# Altium integrated library Wuerth Elektronik Common Mode Line Filter.IntLib: 62 symbols
Pins are listed as number, name and electrical type; pins without a type are passive.

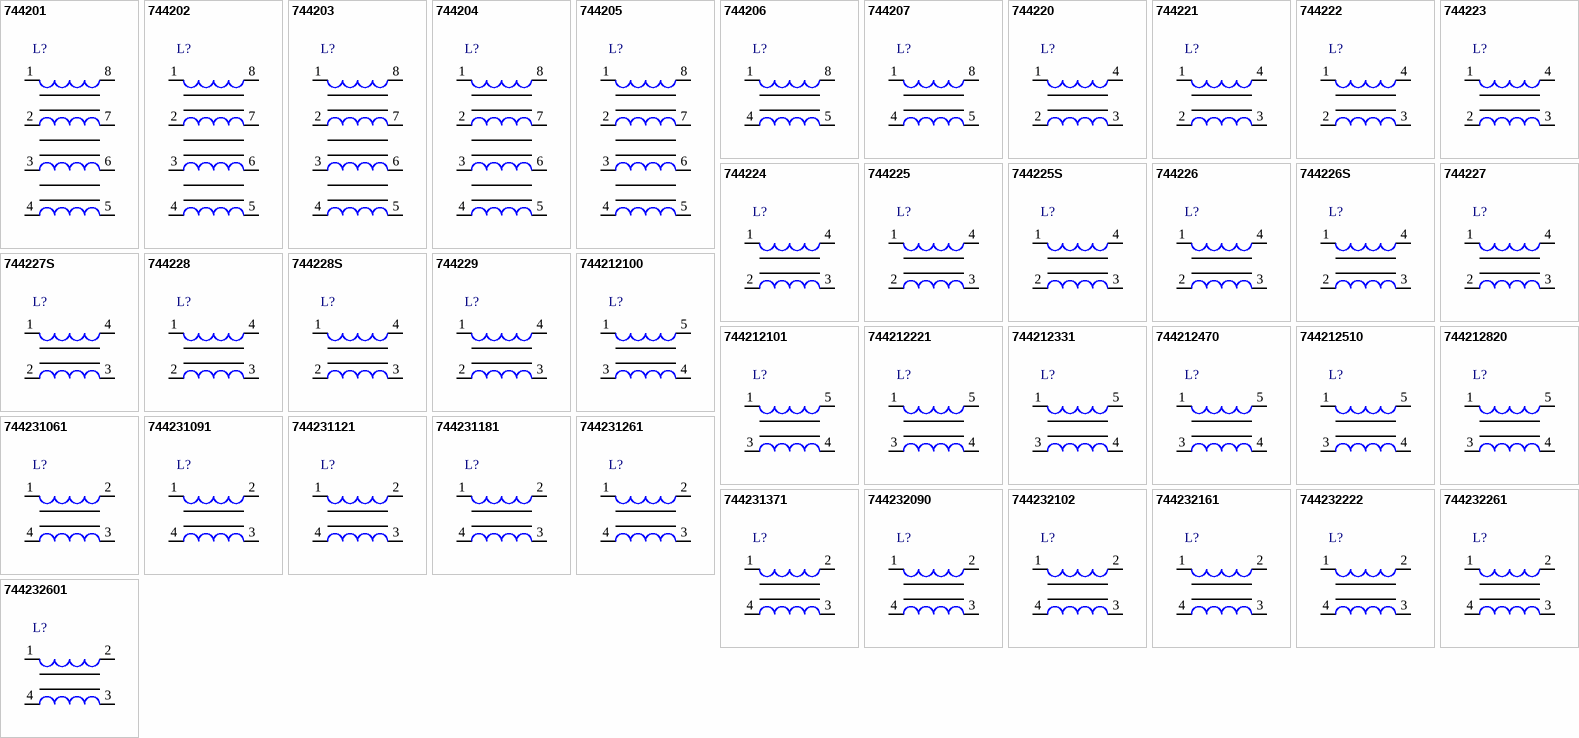
[diagram p0: symbols 744201 to 744232601]

## 744201
designator L?
SMD Common Mode Line Filter WE-SL, L = 4700 µH; Inductance: 4700 µH; DatasheetVersion: ver 6, Dec-2010; PackageVersion: 2010; PackageReference: WE-SL; PackageDescription: SMD Inductor, 8-Leads, Body 10.5 x 9.7 mm; ComponentLink1Description: Manufacturer URL; ComponentLink1URL: http://www.we-online.com; ComponentLink2Description: Datasheet; ComponentLink2URL: http://www.we-online.de/katalog/media/pdf/744201.pdf
footprint WE-SL (SMD Inductor, 8-Leads, Body 10.5x9.7x6.05 mm)
pins: 1, 2, 3, 4, 5, 6, 7, 8

## 744202
designator L?
SMD Common Mode Line Filter WE-SL, L = 1000 µH; Inductance: 1000 µH; DatasheetVersion: ver 6, Dec-2010; PackageVersion: 2010; PackageReference: WE-SL; PackageDescription: SMD Inductor, 8-Leads, Body 10.5 x 9.7 mm; ComponentLink1Description: Manufacturer URL; ComponentLink1URL: http://www.we-online.com; ComponentLink2Description: Datasheet; ComponentLink2URL: http://www.we-online.de/katalog/media/pdf/744202.pdf
footprint WE-SL (SMD Inductor, 8-Leads, Body 10.5x9.7x6.05 mm)
pins: 1, 2, 3, 4, 5, 6, 7, 8

## 744203
designator L?
SMD Common Mode Line Filter WE-SL, L = 500 µH; Inductance: 500 µH; DatasheetVersion: ver 6, Dec-2010; PackageVersion: 2010; PackageReference: WE-SL; PackageDescription: SMD Inductor, 8-Leads, Body 10.5 x 9.7 mm; ComponentLink1Description: Manufacturer URL; ComponentLink1URL: http://www.we-online.com; ComponentLink2Description: Datasheet; ComponentLink2URL: http://www.we-online.de/katalog/media/pdf/744203.pdf
footprint WE-SL (SMD Inductor, 8-Leads, Body 10.5x9.7x6.05 mm)
pins: 1, 2, 3, 4, 5, 6, 7, 8

## 744204
designator L?
SMD Common Mode Line Filter WE-SL, L = 250 µH; Inductance: 250 µH; DatasheetVersion: ver 6, Dec-2010; PackageVersion: 2010; PackageReference: WE-SL; PackageDescription: SMD Inductor, 8-Leads, Body 10.5 x 9.7 mm; ComponentLink1Description: Manufacturer URL; ComponentLink1URL: http://www.we-online.com; ComponentLink2Description: Datasheet; ComponentLink2URL: http://www.we-online.de/katalog/media/pdf/744204.pdf
footprint WE-SL (SMD Inductor, 8-Leads, Body 10.5x9.7x6.05 mm)
pins: 1, 2, 3, 4, 5, 6, 7, 8

## 744205
designator L?
SMD Common Mode Line Filter WE-SL, L = 100 µH; Inductance: 100 µH; DatasheetVersion: ver 6, Dec-2010; PackageVersion: 2010; PackageReference: WE-SL; PackageDescription: SMD Inductor, 8-Leads, Body 10.5 x 9.7 mm; ComponentLink1Description: Manufacturer URL; ComponentLink1URL: http://www.we-online.com; ComponentLink2Description: Datasheet; ComponentLink2URL: http://www.we-online.de/katalog/media/pdf/744205.pdf
footprint WE-SL (SMD Inductor, 8-Leads, Body 10.5x9.7x6.05 mm)
pins: 1, 2, 3, 4, 5, 6, 7, 8

## 744206
designator L?
SMD Common Mode Line Filter WE-SL, L = 60.0 µH; Inductance: 60.0 µH; DatasheetVersion: ver 5, Oct-2004; PackageVersion: 2010; PackageReference: WE-SL; PackageDescription: SMD Inductor, 8-Leads, Body 10.5 x 9.7 mm; ComponentLink1Description: Manufacturer URL; ComponentLink1URL: http://www.we-online.com; ComponentLink2Description: Datasheet; ComponentLink2URL: http://www.we-online.de/katalog/media/pdf/744206.pdf
footprint WE-SL (SMD Inductor, 8-Leads, Body 10.5x9.7x6.05 mm)
pins: 1, 4, 5, 8

## 744207
designator L?
SMD Common Mode Line Filter WE-SL, L = 35.0 µH; Inductance: 35.0 µH; DatasheetVersion: ver 5, Oct-2004; PackageVersion: 2010; PackageReference: WE-SL; PackageDescription: SMD Inductor, 8-Leads, Body 10.5 x 9.7 mm; ComponentLink1Description: Manufacturer URL; ComponentLink1URL: http://www.we-online.com; ComponentLink2Description: Datasheet; ComponentLink2URL: http://www.we-online.de/katalog/media/pdf/744207.pdf
footprint WE-SL (SMD Inductor, 8-Leads, Body 10.5x9.7x6.05 mm)
pins: 1, 4, 5, 8

## 744220
designator L?
SMD Common Mode Line Filter WE-SL2, L = 4700 µH; Inductance: 4700 µH; DatasheetVersion: ver 6, Mar-2010; PackageVersion: 2010; PackageReference: WE-SL2; PackageDescription: SMD Inductor, 4-Leads, Body 6.3 x 9.5 mm; ComponentLink1Description: Manufacturer URL; ComponentLink1URL: http://www.we-online.com; ComponentLink2Description: Datasheet; ComponentLink2URL: http://www.we-online.de/katalog/media/pdf/744220.pdf
footprint WE-SL2 (SMD Inductor, 4-Leads, Body 6.3x9.5x5.3 mm)
pins: 1, 2, 3, 4

## 744221
designator L?
SMD Common Mode Line Filter WE-SL2, L = 2000 µH; Inductance: 2000 µH; DatasheetVersion: ver 5, Oct-2004; PackageVersion: 2010; PackageReference: WE-SL2; PackageDescription: SMD Inductor, 4-Leads, Body 6.3 x 9.5 mm; ComponentLink1Description: Manufacturer URL; ComponentLink1URL: http://www.we-online.com; ComponentLink2Description: Datasheet; ComponentLink2URL: http://www.we-online.de/katalog/media/pdf/744221.pdf
footprint WE-SL2 (SMD Inductor, 4-Leads, Body 6.3x9.5x5.3 mm)
pins: 1, 2, 3, 4

## 744222
designator L?
SMD Common Mode Line Filter WE-SL2, L = 1000 µH; Inductance: 1000 µH; DatasheetVersion: ver 5, Oct-2004; PackageVersion: 2010; PackageReference: WE-SL2; PackageDescription: SMD Inductor, 4-Leads, Body 6.3 x 9.5 mm; ComponentLink1Description: Manufacturer URL; ComponentLink1URL: http://www.we-online.com; ComponentLink2Description: Datasheet; ComponentLink2URL: http://www.we-online.de/katalog/media/pdf/744222.pdf
footprint WE-SL2 (SMD Inductor, 4-Leads, Body 6.3x9.5x5.3 mm)
pins: 1, 2, 3, 4

## 744223
designator L?
SMD Common Mode Line Filter WE-SL2, L = 500 µH; Inductance: 500 µH; DatasheetVersion: ver 5, Oct-2004; PackageVersion: 2010; PackageReference: WE-SL2; PackageDescription: SMD Inductor, 4-Leads, Body 6.3 x 9.5 mm; ComponentLink1Description: Manufacturer URL; ComponentLink1URL: http://www.we-online.com; ComponentLink2Description: Datasheet; ComponentLink2URL: http://www.we-online.de/katalog/media/pdf/744223.pdf
footprint WE-SL2 (SMD Inductor, 4-Leads, Body 6.3x9.5x5.3 mm)
pins: 1, 2, 3, 4

## 744224
designator L?
SMD Common Mode Line Filter WE-SL2, L = 250 µH; Inductance: 250 µH; DatasheetVersion: ver 5, Oct-2004; PackageVersion: 2010; PackageReference: WE-SL2; PackageDescription: SMD Inductor, 4-Leads, Body 6.3 x 9.5 mm; ComponentLink1Description: Manufacturer URL; ComponentLink1URL: http://www.we-online.com; ComponentLink2Description: Datasheet; ComponentLink2URL: http://www.we-online.de/katalog/media/pdf/744224.pdf
footprint WE-SL2 (SMD Inductor, 4-Leads, Body 6.3x9.5x5.3 mm)
pins: 1, 2, 3, 4

## 744225
designator L?
SMD Common Mode Line Filter WE-SL2, L = 40.0 µH; Inductance: 40.0 µH; DatasheetVersion: ver 7, Oct-2004; PackageVersion: 2010; PackageReference: WE-SL2; PackageDescription: SMD Inductor, 4-Leads, Body 6.3 x 9.5 mm; ComponentLink1Description: Manufacturer URL; ComponentLink1URL: http://www.we-online.com; ComponentLink2Description: Datasheet; ComponentLink2URL: http://www.we-online.de/katalog/media/pdf/744225.pdf
footprint WE-SL2 (SMD Inductor, 4-Leads, Body 6.3x9.5x5.3 mm)
pins: 1, 2, 3, 4

## 744225S
designator L?
SMD Common Mode Line Filter WE-SL2, L = 40.0 µH; Inductance: 40.0 µH; DatasheetVersion: ver 7, Oct-2004; PackageVersion: 2010; PackageReference: WE-SL2; PackageDescription: SMD Inductor, 4-Leads, Body 6.3 x 9.5 mm; ComponentLink1Description: Manufacturer URL; ComponentLink1URL: http://www.we-online.com; ComponentLink2Description: Datasheet; ComponentLink2URL: http://www.we-online.de/katalog/media/pdf/744225S.pdf
footprint WE-SL2 (SMD Inductor, 4-Leads, Body 6.3x9.5x5.3 mm)
pins: 1, 2, 3, 4

## 744226
designator L?
SMD Common Mode Line Filter WE-SL2, L = 10.0 µH; Inductance: 10.0 µH; DatasheetVersion: ver 7, Oct-2004; PackageVersion: 2010; PackageReference: WE-SL2; PackageDescription: SMD Inductor, 4-Leads, Body 6.3 x 9.5 mm; ComponentLink1Description: Manufacturer URL; ComponentLink1URL: http://www.we-online.com; ComponentLink2Description: Datasheet; ComponentLink2URL: http://www.we-online.de/katalog/media/pdf/744226.pdf
footprint WE-SL2 (SMD Inductor, 4-Leads, Body 6.3x9.5x5.3 mm)
pins: 1, 2, 3, 4

## 744226S
designator L?
SMD Common Mode Line Filter WE-SL2, L = 10.0 µH; Inductance: 10.0 µH; DatasheetVersion: ver 7, Oct-2004; PackageVersion: 2010; PackageReference: WE-SL2; PackageDescription: SMD Inductor, 4-Leads, Body 6.3 x 9.5 mm; ComponentLink1Description: Manufacturer URL; ComponentLink1URL: http://www.we-online.com; ComponentLink2Description: Datasheet; ComponentLink2URL: http://www.we-online.de/katalog/media/pdf/744226S.pdf
footprint WE-SL2 (SMD Inductor, 4-Leads, Body 6.3x9.5x5.3 mm)
pins: 1, 2, 3, 4

## 744227
designator L?
SMD Common Mode Line Filter WE-SL2, L = 51.0 µH; Inductance: 51.0 µH; DatasheetVersion: ver 7, Oct-2004; PackageVersion: 2010; PackageReference: WE-SL2; PackageDescription: SMD Inductor, 4-Leads, Body 6.3 x 9.5 mm; ComponentLink1Description: Manufacturer URL; ComponentLink1URL: http://www.we-online.com; ComponentLink2Description: Datasheet; ComponentLink2URL: http://www.we-online.de/katalog/media/pdf/744227.pdf
footprint WE-SL2 (SMD Inductor, 4-Leads, Body 6.3x9.5x5.3 mm)
pins: 1, 2, 3, 4

## 744227S
designator L?
SMD Common Mode Line Filter WE-SL2, L = 51.0 µH; Inductance: 51.0 µH; DatasheetVersion: ver 7, Oct-2004; PackageVersion: 2010; PackageReference: WE-SL2; PackageDescription: SMD Inductor, 4-Leads, Body 6.3 x 9.5 mm; ComponentLink1Description: Manufacturer URL; ComponentLink1URL: http://www.we-online.com; ComponentLink2Description: Datasheet; ComponentLink2URL: http://www.we-online.de/katalog/media/pdf/744227S.pdf
footprint WE-SL2 (SMD Inductor, 4-Leads, Body 6.3x9.5x5.3 mm)
pins: 1, 2, 3, 4

## 744228
designator L?
SMD Common Mode Line Filter WE-SL2, L = 25.0 µH; Inductance: 25.0 µH; DatasheetVersion: ver 7, Oct-2004; PackageVersion: 2010; PackageReference: WE-SL2; PackageDescription: SMD Inductor, 4-Leads, Body 6.3 x 9.5 mm; ComponentLink1Description: Manufacturer URL; ComponentLink1URL: http://www.we-online.com; ComponentLink2Description: Datasheet; ComponentLink2URL: http://www.we-online.de/katalog/media/pdf/744228.pdf
footprint WE-SL2 (SMD Inductor, 4-Leads, Body 6.3x9.5x5.3 mm)
pins: 1, 2, 3, 4

## 744228S
designator L?
SMD Common Mode Line Filter WE-SL2, L = 25.0 µH; Inductance: 25.0 µH; DatasheetVersion: ver 7, Oct-2004; PackageVersion: 2010; PackageReference: WE-SL2; PackageDescription: SMD Inductor, 4-Leads, Body 6.3 x 9.5 mm; ComponentLink1Description: Manufacturer URL; ComponentLink1URL: http://www.we-online.com; ComponentLink2Description: Datasheet; ComponentLink2URL: http://www.we-online.de/katalog/media/pdf/744228S.pdf
footprint WE-SL2 (SMD Inductor, 4-Leads, Body 6.3x9.5x5.3 mm)
pins: 1, 2, 3, 4

## 744229
designator L?
SMD Common Mode Line Filter WE-SL2, L = 6500 µH; Inductance: 6500 µH; DatasheetVersion: ver 6, Mar-2010; PackageVersion: 2010; PackageReference: WE-SL2; PackageDescription: SMD Inductor, 4-Leads, Body 6.3 x 9.5 mm; ComponentLink1Description: Manufacturer URL; ComponentLink1URL: http://www.we-online.com; ComponentLink2Description: Datasheet; ComponentLink2URL: http://www.we-online.de/katalog/media/pdf/744229.pdf
footprint WE-SL2 (SMD Inductor, 4-Leads, Body 6.3x9.5x5.3 mm)
pins: 1, 2, 3, 4

## 744212100
designator L?
SMD Common Mode Line Filter WE-SL1, L = 10.0 µH; Inductance: 10.0 µH; DatasheetVersion: ver 7, Nov-2010; PackageVersion: 2010; PackageReference: WE-SL1; PackageDescription: SMD Inductor, 4-Leads, Body 3.8 x 6.5 mm; ComponentLink1Description: Manufacturer URL; ComponentLink1URL: http://www.we-online.com; ComponentLink2Description: Datasheet; ComponentLink2URL: http://www.we-online.de/katalog/media/pdf/744212100.pdf
footprint WE-SL1 (SMD Inductor, 4-Leads, Body 3.8x6.5x1.8 mm)
pins: 1, 3, 4, 5

## 744212101
designator L?
SMD Common Mode Line Filter WE-SL1, L = 100 µH; Inductance: 100 µH; DatasheetVersion: ver 7, Nov-2010; PackageVersion: 2010; PackageReference: WE-SL1; PackageDescription: SMD Inductor, 4-Leads, Body 3.8 x 6.5 mm; ComponentLink1Description: Manufacturer URL; ComponentLink1URL: http://www.we-online.com; ComponentLink2Description: Datasheet; ComponentLink2URL: http://www.we-online.de/katalog/media/pdf/744212101.pdf
footprint WE-SL1 (SMD Inductor, 4-Leads, Body 3.8x6.5x1.8 mm)
pins: 1, 3, 4, 5

## 744212221
designator L?
SMD Common Mode Line Filter WE-SL1, L = 220 µH; Inductance: 220 µH; DatasheetVersion: ver 7, Nov-2010; PackageVersion: 2010; PackageReference: WE-SL1; PackageDescription: SMD Inductor, 4-Leads, Body 3.8 x 6.5 mm; ComponentLink1Description: Manufacturer URL; ComponentLink1URL: http://www.we-online.com; ComponentLink2Description: Datasheet; ComponentLink2URL: http://www.we-online.de/katalog/media/pdf/744212221.pdf
footprint WE-SL1 (SMD Inductor, 4-Leads, Body 3.8x6.5x1.8 mm)
pins: 1, 3, 4, 5

## 744212331
designator L?
SMD Common Mode Line Filter WE-SL1, L = 330 µH; Inductance: 330 µH; DatasheetVersion: ver 7, Nov-2010; PackageVersion: 2010; PackageReference: WE-SL1; PackageDescription: SMD Inductor, 4-Leads, Body 3.8 x 6.5 mm; ComponentLink1Description: Manufacturer URL; ComponentLink1URL: http://www.we-online.com; ComponentLink2Description: Datasheet; ComponentLink2URL: http://www.we-online.de/katalog/media/pdf/744212331.pdf
footprint WE-SL1 (SMD Inductor, 4-Leads, Body 3.8x6.5x1.8 mm)
pins: 1, 3, 4, 5

## 744212470
designator L?
SMD Common Mode Line Filter WE-SL1, L = 47.0 µH; Inductance: 47.0 µH; DatasheetVersion: ver 7, Nov-2010; PackageVersion: 2010; PackageReference: WE-SL1; PackageDescription: SMD Inductor, 4-Leads, Body 3.8 x 6.5 mm; ComponentLink1Description: Manufacturer URL; ComponentLink1URL: http://www.we-online.com; ComponentLink2Description: Datasheet; ComponentLink2URL: http://www.we-online.de/katalog/media/pdf/744212470.pdf
footprint WE-SL1 (SMD Inductor, 4-Leads, Body 3.8x6.5x1.8 mm)
pins: 1, 3, 4, 5

## 744212510
designator L?
SMD Common Mode Line Filter WE-SL1, L = 51.0 µH; Inductance: 51.0 µH; DatasheetVersion: ver 7, Nov-2010; PackageVersion: 2010; PackageReference: WE-SL1; PackageDescription: SMD Inductor, 4-Leads, Body 3.8 x 6.5 mm; ComponentLink1Description: Manufacturer URL; ComponentLink1URL: http://www.we-online.com; ComponentLink2Description: Datasheet; ComponentLink2URL: http://www.we-online.de/katalog/media/pdf/744212510.pdf
footprint WE-SL1 (SMD Inductor, 4-Leads, Body 3.8x6.5x1.8 mm)
pins: 1, 3, 4, 5

## 744212820
designator L?
SMD Common Mode Line Filter WE-SL1, L = 82.0 µH; Inductance: 82.0 µH; DatasheetVersion: ver 7, Nov-2010; PackageVersion: 2010; PackageReference: WE-SL1; PackageDescription: SMD Inductor, 4-Leads, Body 3.8 x 6.5 mm; ComponentLink1Description: Manufacturer URL; ComponentLink1URL: http://www.we-online.com; ComponentLink2Description: Datasheet; ComponentLink2URL: http://www.we-online.de/katalog/media/pdf/744212820.pdf
footprint WE-SL1 (SMD Inductor, 4-Leads, Body 3.8x6.5x1.8 mm)
pins: 1, 3, 4, 5

## 744231061
designator L?
SMD Common Mode Noise Suppressor WE-CNSW, Z = 67 Ohm; Impedance: 67 Ohm; DatasheetVersion: ver 4, Nov-2010; PackageVersion: 2010; PackageReference: WE-CNSW-0805; PackageDescription: SMD Inductor, 4-Leads, Body 1.4 x 2.2 mm; ComponentLink1Description: Manufacturer URL; ComponentLink1URL: http://www.we-online.com; ComponentLink2Description: Datasheet; ComponentLink2URL: http://www.we-online.de/katalog/media/pdf/744231061.pdf
footprint WE-CNSW-0805 (SMD Inductor, 4-Leads, Body 1.4x2.2x1.4 mm)
pins: 1, 2, 3, 4

## 744231091
designator L?
SMD Common Mode Noise Suppressor WE-CNSW, Z = 90 Ohm; Impedance: 90 Ohm; DatasheetVersion: ver 4, Nov-2010; PackageVersion: 2010; PackageReference: WE-CNSW-0805; PackageDescription: SMD Inductor, 4-Leads, Body 1.4 x 2.2 mm; ComponentLink1Description: Manufacturer URL; ComponentLink1URL: http://www.we-online.com; ComponentLink2Description: Datasheet; ComponentLink2URL: http://www.we-online.de/katalog/media/pdf/744231091.pdf
footprint WE-CNSW-0805 (SMD Inductor, 4-Leads, Body 1.4x2.2x1.4 mm)
pins: 1, 2, 3, 4

## 744231121
designator L?
SMD Common Mode Noise Suppressor WE-CNSW, Z = 120 Ohm; Impedance: 120 Ohm; DatasheetVersion: ver 4, Nov-2010; PackageVersion: 2010; PackageReference: WE-CNSW-0805; PackageDescription: SMD Inductor, 4-Leads, Body 1.4 x 2.2 mm; ComponentLink1Description: Manufacturer URL; ComponentLink1URL: http://www.we-online.com; ComponentLink2Description: Datasheet; ComponentLink2URL: http://www.we-online.de/katalog/media/pdf/744231121.pdf
footprint WE-CNSW-0805 (SMD Inductor, 4-Leads, Body 1.4x2.2x1.4 mm)
pins: 1, 2, 3, 4

## 744231181
designator L?
SMD Common Mode Noise Suppressor WE-CNSW, Z = 180 Ohm; Impedance: 180 Ohm; DatasheetVersion: ver 4, Nov-2010; PackageVersion: 2010; PackageReference: WE-CNSW-0805; PackageDescription: SMD Inductor, 4-Leads, Body 1.4 x 2.2 mm; ComponentLink1Description: Manufacturer URL; ComponentLink1URL: http://www.we-online.com; ComponentLink2Description: Datasheet; ComponentLink2URL: http://www.we-online.de/katalog/media/pdf/744231181.pdf
footprint WE-CNSW-0805 (SMD Inductor, 4-Leads, Body 1.4x2.2x1.4 mm)
pins: 1, 2, 3, 4

## 744231261
designator L?
SMD Common Mode Noise Suppressor WE-CNSW, Z = 260 Ohm; Impedance: 260 Ohm; DatasheetVersion: ver 4, Nov-2010; PackageVersion: 2010; PackageReference: WE-CNSW-0805; PackageDescription: SMD Inductor, 4-Leads, Body 1.4 x 2.2 mm; ComponentLink1Description: Manufacturer URL; ComponentLink1URL: http://www.we-online.com; ComponentLink2Description: Datasheet; ComponentLink2URL: http://www.we-online.de/katalog/media/pdf/744231261.pdf
footprint WE-CNSW-0805 (SMD Inductor, 4-Leads, Body 1.4x2.2x1.4 mm)
pins: 1, 2, 3, 4

## 744231371
designator L?
SMD Common Mode Noise Suppressor WE-CNSW, Z = 370 Ohm; Impedance: 370 Ohm; DatasheetVersion: ver 4, Nov-2010; PackageVersion: 2010; PackageReference: WE-CNSW-0805; PackageDescription: SMD Inductor, 4-Leads, Body 1.4 x 2.2 mm; ComponentLink1Description: Manufacturer URL; ComponentLink1URL: http://www.we-online.com; ComponentLink2Description: Datasheet; ComponentLink2URL: http://www.we-online.de/katalog/media/pdf/744231371.pdf
footprint WE-CNSW-0805 (SMD Inductor, 4-Leads, Body 1.4x2.2x1.4 mm)
pins: 1, 2, 3, 4

## 744232090
designator L?
SMD Common Mode Noise Suppressor WE-CNSW, Z = 90 Ohm; Impedance: 90 Ohm; DatasheetVersion: ver 3, Oct-2004; PackageVersion: 2004; PackageReference: WE-CNSW-1206; PackageDescription: SMD Inductor, 4-Leads, Body 1.8 x 3.4 mm; ComponentLink1Description: Manufacturer URL; ComponentLink1URL: http://www.we-online.com; ComponentLink2Description: Datasheet; ComponentLink2URL: http://www.we-online.de/katalog/media/pdf/744232090.pdf
footprint WE-CNSW-1206 (SMD Inductor, 4-Leads, Body 1.8x3.4x2.1 mm)
pins: 1, 2, 3, 4

## 744232102
designator L?
SMD Common Mode Noise Suppressor WE-CNSW, Z = 1000 Ohm; DatasheetVersion: ver 3, Oct-2004; PackageVersion: 2004; PackageReference: WE-CNSW-1206; PackageDescription: SMD Inductor, 4-Leads, Body 1.8 x 3.4 mm; Impedance: 1000 Ohm; ComponentLink1Description: Manufacturer URL; ComponentLink1URL: http://www.we-online.com; ComponentLink2Description: Datasheet; ComponentLink2URL: http://www.we-online.de/katalog/media/pdf/744232102.pdf
footprint WE-CNSW-1206 (SMD Inductor, 4-Leads, Body 1.8x3.4x2.1 mm)
pins: 1, 2, 3, 4

## 744232161
designator L?
SMD Common Mode Noise Suppressor WE-CNSW, Z = 160 Ohm; Impedance: 160 Ohm; DatasheetVersion: ver 3, Oct-2004; PackageVersion: 2004; PackageReference: WE-CNSW-1206; PackageDescription: SMD Inductor, 4-Leads, Body 1.8 x 3.4 mm; ComponentLink1Description: Manufacturer URL; ComponentLink1URL: http://www.we-online.com; ComponentLink2Description: Datasheet; ComponentLink2URL: http://www.we-online.de/katalog/media/pdf/744232161.pdf
footprint WE-CNSW-1206 (SMD Inductor, 4-Leads, Body 1.8x3.4x2.1 mm)
pins: 1, 2, 3, 4

## 744232222
designator L?
SMD Common Mode Noise Suppressor WE-CNSW, Z = 2200 Ohm; DatasheetVersion: ver 3, Oct-2004; PackageVersion: 2004; PackageReference: WE-CNSW-1206; PackageDescription: SMD Inductor, 4-Leads, Body 1.8 x 3.4 mm; Impedance: 2200 Ohm; ComponentLink1Description: Manufacturer URL; ComponentLink1URL: http://www.we-online.com; ComponentLink2Description: Datasheet; ComponentLink2URL: http://www.we-online.de/katalog/media/pdf/744232222.pdf
footprint WE-CNSW-1206 (SMD Inductor, 4-Leads, Body 1.8x3.4x2.1 mm)
pins: 1, 2, 3, 4

## 744232261
designator L?
SMD Common Mode Noise Suppressor WE-CNSW, Z = 260 Ohm; Impedance: 260 Ohm; DatasheetVersion: ver 3, Oct-2004; PackageVersion: 2004; PackageReference: WE-CNSW-1206; PackageDescription: SMD Inductor, 4-Leads, Body 1.8 x 3.4 mm; ComponentLink1Description: Manufacturer URL; ComponentLink1URL: http://www.we-online.com; ComponentLink2Description: Datasheet; ComponentLink2URL: http://www.we-online.de/katalog/media/pdf/744232261.pdf
footprint WE-CNSW-1206 (SMD Inductor, 4-Leads, Body 1.8x3.4x2.1 mm)
pins: 1, 2, 3, 4

## 744232601
designator L?
SMD Common Mode Noise Suppressor WE-CNSW, Z = 600 Ohm; Impedance: 600 Ohm; DatasheetVersion: ver 3, Oct-2004; PackageVersion: 2004; PackageReference: WE-CNSW-1206; PackageDescription: SMD Inductor, 4-Leads, Body 1.8 x 3.4 mm; ComponentLink1Description: Manufacturer URL; ComponentLink1URL: http://www.we-online.com; ComponentLink2Description: Datasheet; ComponentLink2URL: http://www.we-online.de/katalog/media/pdf/744232601.pdf
footprint WE-CNSW-1206 (SMD Inductor, 4-Leads, Body 1.8x3.4x2.1 mm)
pins: 1, 2, 3, 4

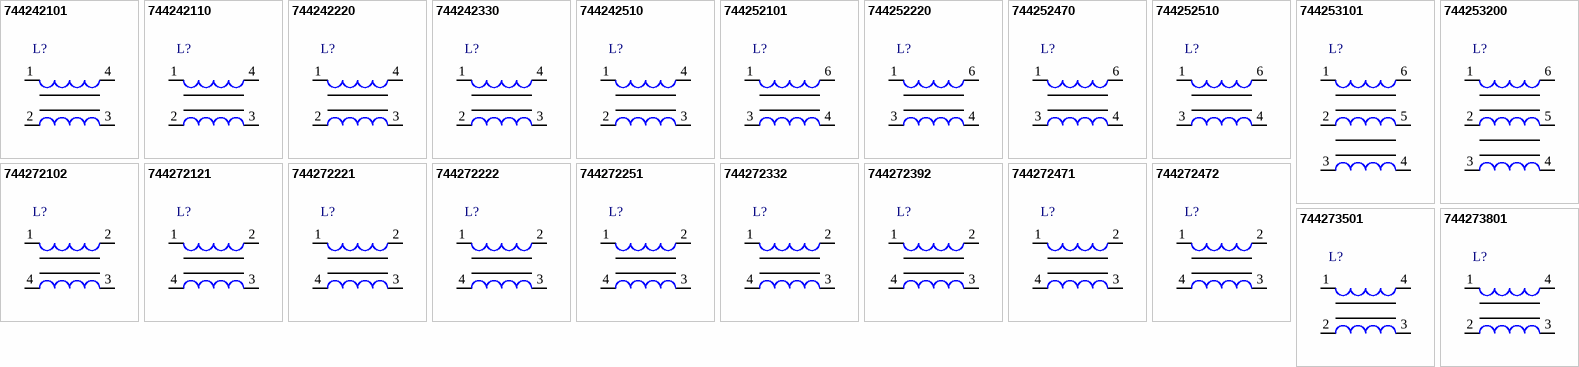
[diagram p1: symbols 744242101 to 744273801]

## 744242101
designator L?
SMD Common Mode Line Filter WE-SLM, L = 100 µH; Inductance: 100 µH; DatasheetVersion: ver 3, Feb-2006; PackageVersion: 2006; PackageReference: WE-SLM; PackageDescription: SMD Inductor, 4-Leads, Body 3.6 x 6.3 mm; ComponentLink1Description: Manufacturer URL; ComponentLink1URL: http://www.we-online.com; ComponentLink2Description: Datasheet; ComponentLink2URL: http://www.we-online.de/katalog/media/pdf/744242101.pdf
footprint WE-SLM (SMD Inductor, 4-Leads, Body 3.6x6.3x3.5 mm)
pins: 1, 2, 3, 4

## 744242110
designator L?
SMD Common Mode Line Filter WE-SLM, L = 11.0 µH; Inductance: 11.0 µH; DatasheetVersion: ver 3, Feb-2006; PackageVersion: 2006; PackageReference: WE-SLM; PackageDescription: SMD Inductor, 4-Leads, Body 3.6 x 6.3 mm; ComponentLink1Description: Manufacturer URL; ComponentLink1URL: http://www.we-online.com; ComponentLink2Description: Datasheet; ComponentLink2URL: http://www.we-online.de/katalog/media/pdf/744242110.pdf
footprint WE-SLM (SMD Inductor, 4-Leads, Body 3.6x6.3x3.5 mm)
pins: 1, 2, 3, 4

## 744242220
designator L?
SMD Common Mode Line Filter WE-SLM, L = 22.0 µH; Inductance: 22.0 µH; DatasheetVersion: ver 3, Feb-2006; PackageVersion: 2006; PackageReference: WE-SLM; PackageDescription: SMD Inductor, 4-Leads, Body 3.6 x 6.3 mm; ComponentLink1Description: Manufacturer URL; ComponentLink1URL: http://www.we-online.com; ComponentLink2Description: Datasheet; ComponentLink2URL: http://www.we-online.de/katalog/media/pdf/744242220.pdf
footprint WE-SLM (SMD Inductor, 4-Leads, Body 3.6x6.3x3.5 mm)
pins: 1, 2, 3, 4

## 744242330
designator L?
SMD Common Mode Line Filter WE-SLM, L = 33.0 µH; Inductance: 33.0 µH; DatasheetVersion: ver 3, Feb-2006; PackageVersion: 2006; PackageReference: WE-SLM; PackageDescription: SMD Inductor, 4-Leads, Body 3.6 x 6.3 mm; ComponentLink1Description: Manufacturer URL; ComponentLink1URL: http://www.we-online.com; ComponentLink2Description: Datasheet; ComponentLink2URL: http://www.we-online.de/katalog/media/pdf/744242330.pdf
footprint WE-SLM (SMD Inductor, 4-Leads, Body 3.6x6.3x3.5 mm)
pins: 1, 2, 3, 4

## 744242510
designator L?
SMD Common Mode Line Filter WE-SLM, L = 51.0 µH; Inductance: 51.0 µH; DatasheetVersion: ver 3, Feb-2006; PackageVersion: 2006; PackageReference: WE-SLM; PackageDescription: SMD Inductor, 4-Leads, Body 3.6 x 6.3 mm; ComponentLink1Description: Manufacturer URL; ComponentLink1URL: http://www.we-online.com; ComponentLink2Description: Datasheet; ComponentLink2URL: http://www.we-online.de/katalog/media/pdf/744242510.pdf
footprint WE-SLM (SMD Inductor, 4-Leads, Body 3.6x6.3x3.5 mm)
pins: 1, 2, 3, 4

## 744252101
designator L?
SMD Common Mode Line Filter WE-SL3, L = 100 µH; Inductance: 100 µH; DatasheetVersion: ver 2, Oct-2004; PackageVersion: 2004; PackageReference: WE-SL3-744252X; PackageDescription: SMD Inductor, 4-Leads, Body 6.6 x 9.2 mm; ComponentLink1Description: Manufacturer URL; ComponentLink1URL: http://www.we-online.com; ComponentLink2Description: Datasheet; ComponentLink2URL: http://www.we-online.de/katalog/media/pdf/744252101.pdf
footprint WE-SL3-744252X (SMD Inductor, 4-Leads, Body 6.6x9.2x2.5 mm)
pins: 1, 3, 4, 6

## 744252220
designator L?
SMD Common Mode Line Filter WE-SL3, L = 22.0 µH; Inductance: 22.0 µH; DatasheetVersion: ver 2, Oct-2004; PackageVersion: 2004; PackageReference: WE-SL3-744252X; PackageDescription: SMD Inductor, 4-Leads, Body 6.6 x 9.2 mm; ComponentLink1Description: Manufacturer URL; ComponentLink1URL: http://www.we-online.com; ComponentLink2Description: Datasheet; ComponentLink2URL: http://www.we-online.de/katalog/media/pdf/744252220.pdf
footprint WE-SL3-744252X (SMD Inductor, 4-Leads, Body 6.6x9.2x2.5 mm)
pins: 1, 3, 4, 6

## 744252470
designator L?
SMD Common Mode Line Filter WE-SL3, L = 47.0 µH; Inductance: 47.0 µH; DatasheetVersion: ver 2, Oct-2004; PackageVersion: 2004; PackageReference: WE-SL3-744252X; PackageDescription: SMD Inductor, 4-Leads, Body 6.6 x 9.2 mm; ComponentLink1Description: Manufacturer URL; ComponentLink1URL: http://www.we-online.com; ComponentLink2Description: Datasheet; ComponentLink2URL: http://www.we-online.de/katalog/media/pdf/744252470.pdf
footprint WE-SL3-744252X (SMD Inductor, 4-Leads, Body 6.6x9.2x2.5 mm)
pins: 1, 3, 4, 6

## 744252510
designator L?
SMD Common Mode Line Filter WE-SL3, L = 51.0 µH; Inductance: 51.0 µH; DatasheetVersion: ver 2, Oct-2004; PackageVersion: 2004; PackageReference: WE-SL3-744252X; PackageDescription: SMD Inductor, 4-Leads, Body 6.6 x 9.2 mm; ComponentLink1Description: Manufacturer URL; ComponentLink1URL: http://www.we-online.com; ComponentLink2Description: Datasheet; ComponentLink2URL: http://www.we-online.de/katalog/media/pdf/744252510.pdf
footprint WE-SL3-744252X (SMD Inductor, 4-Leads, Body 6.6x9.2x2.5 mm)
pins: 1, 3, 4, 6

## 744253101
designator L?
SMD Common Mode Line Filter WE-SL3, L = 100 µH; Inductance: 100 µH; DatasheetVersion: ver 1, Sep-2006; PackageVersion: 2004; PackageReference: WE-SL3-744253X; PackageDescription: SMD Inductor, 6-Leads, Body 6.6 x 9.2 mm; ComponentLink1Description: Manufacturer URL; ComponentLink1URL: http://www.we-online.com; ComponentLink2Description: Datasheet; ComponentLink2URL: http://www.we-online.de/katalog/media/pdf/744253101.pdf
footprint WE-SL3-744253X (SMD Inductor, 6-Leads, Body 6.6x9.2x2.5 mm)
pins: 1, 2, 3, 4, 5, 6

## 744253200
designator L?
SMD Common Mode Line Filter WE-SL3, L = 20.0 µH; Inductance: 20.0 µH; DatasheetVersion: ver 2, Oct-2004; PackageVersion: 2004; PackageReference: WE-SL3-744253X; PackageDescription: SMD Inductor, 6-Leads, Body 6.6 x 9.2 mm; ComponentLink1Description: Manufacturer URL; ComponentLink1URL: http://www.we-online.com; ComponentLink2Description: Datasheet; ComponentLink2URL: http://www.we-online.de/katalog/media/pdf/744253200.pdf
footprint WE-SL3-744253X (SMD Inductor, 6-Leads, Body 6.6x9.2x2.5 mm)
pins: 1, 2, 3, 4, 5, 6

## 744272102
designator L?
SMD Common Mode Line Filter WE-SL5, L = 1000 µH; Inductance: 1000 µH; DatasheetVersion: ver 4, Jan-2008; PackageVersion: 2008; PackageReference: WE-SL5; PackageDescription: SMD Inductor, Body 9.0 x 10.3 mm; ComponentLink1Description: Manufacturer URL; ComponentLink1URL: http://www.we-online.com; ComponentLink2Description: Datasheet; ComponentLink2URL: http://www.we-online.de/katalog/media/pdf/744272102.pdf
footprint WE-SL5 (SMD Inductor, Body 9.0x10.3x6.5 mm)
pins: 1, 2, 3, 4

## 744272121
designator L?
SMD Common Mode Line Filter WE-SL5, L = 120 µH; Inductance: 120 µH; DatasheetVersion: ver 4, Jan-2008; PackageVersion: 2008; PackageReference: WE-SL5; PackageDescription: SMD Inductor, Body 9.0 x 10.3 mm; ComponentLink1Description: Manufacturer URL; ComponentLink1URL: http://www.we-online.com; ComponentLink2Description: Datasheet; ComponentLink2URL: http://www.we-online.de/katalog/media/pdf/744272121.pdf
footprint WE-SL5 (SMD Inductor, Body 9.0x10.3x6.5 mm)
pins: 1, 2, 3, 4

## 744272221
designator L?
SMD Common Mode Line Filter WE-SL5, L = 220 µH; Inductance: 220 µH; DatasheetVersion: ver 4, Jan-2008; PackageVersion: 2008; PackageReference: WE-SL5; PackageDescription: SMD Inductor, Body 9.0 x 10.3 mm; ComponentLink1Description: Manufacturer URL; ComponentLink1URL: http://www.we-online.com; ComponentLink2Description: Datasheet; ComponentLink2URL: http://www.we-online.de/katalog/media/pdf/744272221.pdf
footprint WE-SL5 (SMD Inductor, Body 9.0x10.3x6.5 mm)
pins: 1, 2, 3, 4

## 744272222
designator L?
SMD Common Mode Line Filter WE-SL5, L = 2200 µH; Inductance: 2200 µH; DatasheetVersion: ver 4, Jan-2008; PackageVersion: 2008; PackageReference: WE-SL5; PackageDescription: SMD Inductor, Body 9.0 x 10.3 mm; ComponentLink1Description: Manufacturer URL; ComponentLink1URL: http://www.we-online.com; ComponentLink2Description: Datasheet; ComponentLink2URL: http://www.we-online.de/katalog/media/pdf/744272222.pdf
footprint WE-SL5 (SMD Inductor, Body 9.0x10.3x6.5 mm)
pins: 1, 2, 3, 4

## 744272251
designator L?
SMD Common Mode Line Filter WE-SL5, L = 250 µH; Inductance: 250 µH; DatasheetVersion: ver 4, Jan-2008; PackageVersion: 2008; PackageReference: WE-SL5; PackageDescription: SMD Inductor, Body 9.0 x 10.3 mm; ComponentLink1Description: Manufacturer URL; ComponentLink1URL: http://www.we-online.com; ComponentLink2Description: Datasheet; ComponentLink2URL: http://www.we-online.de/katalog/media/pdf/744272251.pdf
footprint WE-SL5 (SMD Inductor, Body 9.0x10.3x6.5 mm)
pins: 1, 2, 3, 4

## 744272332
designator L?
SMD Common Mode Line Filter WE-SL5, L = 3300 µH; Inductance: 3300 µH; DatasheetVersion: ver 4, Jan-2008; PackageVersion: 2008; PackageReference: WE-SL5; PackageDescription: SMD Inductor, Body 9.0 x 10.3 mm; ComponentLink1Description: Manufacturer URL; ComponentLink1URL: http://www.we-online.com; ComponentLink2Description: Datasheet; ComponentLink2URL: http://www.we-online.de/katalog/media/pdf/744272332.pdf
footprint WE-SL5 (SMD Inductor, Body 9.0x10.3x6.5 mm)
pins: 1, 2, 3, 4

## 744272392
designator L?
SMD Common Mode Line Filter WE-SL5, L = 3900 µH; Inductance: 3900 µH; DatasheetVersion: ver 4, Jan-2008; PackageVersion: 2008; PackageReference: WE-SL5; PackageDescription: SMD Inductor, Body 9.0 x 10.3 mm; ComponentLink1Description: Manufacturer URL; ComponentLink1URL: http://www.we-online.com; ComponentLink2Description: Datasheet; ComponentLink2URL: http://www.we-online.de/katalog/media/pdf/744272392.pdf
footprint WE-SL5 (SMD Inductor, Body 9.0x10.3x6.5 mm)
pins: 1, 2, 3, 4

## 744272471
designator L?
SMD Common Mode Line Filter WE-SL5, L = 470 µH; Inductance: 470 µH; DatasheetVersion: ver 4, Jan-2008; PackageVersion: 2008; PackageReference: WE-SL5; PackageDescription: SMD Inductor, Body 9.0 x 10.3 mm; ComponentLink1Description: Manufacturer URL; ComponentLink1URL: http://www.we-online.com; ComponentLink2Description: Datasheet; ComponentLink2URL: http://www.we-online.de/katalog/media/pdf/744272471.pdf
footprint WE-SL5 (SMD Inductor, Body 9.0x10.3x6.5 mm)
pins: 1, 2, 3, 4

## 744272472
designator L?
SMD Common Mode Line Filter WE-SL5, L = 4700 µH; Inductance: 4700 µH; DatasheetVersion: ver 4, Jan-2008; PackageVersion: 2008; PackageReference: WE-SL5; PackageDescription: SMD Inductor, Body 9.0 x 10.3 mm; ComponentLink1Description: Manufacturer URL; ComponentLink1URL: http://www.we-online.com; ComponentLink2Description: Datasheet; ComponentLink2URL: http://www.we-online.de/katalog/media/pdf/744272472.pdf
footprint WE-SL5 (SMD Inductor, Body 9.0x10.3x6.5 mm)
pins: 1, 2, 3, 4

## 744273501
designator L?
SMD Common Mode Line Filter WE-SL5 HC, L = 5.00 µH; Inductance: 5.00 µH; DatasheetVersion: ver 3, Feb-2010; PackageVersion: 2010; PackageReference: WE-SL5-HC; PackageDescription: SMD Inductor, Body 8.3 x 9.5 mm; ComponentLink1Description: Manufacturer URL; ComponentLink1URL: http://www.we-online.com; ComponentLink2Description: Datasheet; ComponentLink2URL: http://www.we-online.de/katalog/media/pdf/744273501.pdf
footprint WE-SL5-HC (SMD Inductor, Body 8.3x9.5x5.3 mm)
pins: 1, 2, 3, 4

## 744273801
designator L?
SMD Common Mode Line Filter WE-SL5 HC, L = 9.00 µH; Inductance: 9.00 µH; DatasheetVersion: ver 3, Feb-2010; PackageVersion: 2010; PackageReference: WE-SL5-HC; PackageDescription: SMD Inductor, Body 8.3 x 9.5 mm; ComponentLink1Description: Manufacturer URL; ComponentLink1URL: http://www.we-online.com; ComponentLink2Description: Datasheet; ComponentLink2URL: http://www.we-online.de/katalog/media/pdf/744273801.pdf
footprint WE-SL5-HC (SMD Inductor, Body 8.3x9.5x5.3 mm)
pins: 1, 2, 3, 4